# Altium schematic symbol library jlcpcb_inductors_basic.schlib: 13 symbols
Pins are listed as number, name and electrical type; pins without a type are passive.

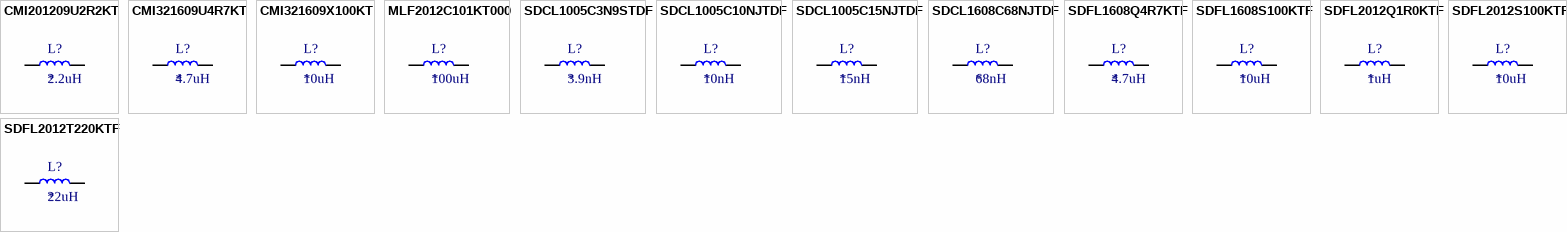
[diagram p0: symbols CMI201209U2R2KT to SDFL2012T220KTF]

## CMI201209U2R2KT
designator L?  Capacitance: 2.2uH
Inductor, 2.2uH, ±10%, 600mΩ, 50mA, SMD 0805; Manufacturer: FH(Guangdong Fenghua Advanced Tech); Manufacturer Part Number: CMI201209U2R2KT; Self-Resonant Frequency: 50MHz; Q Factor: 35@10MHz; Package Size: 0805; JLCPCB Basic Part: Yes; JLCPCB Part Number: C1043; Supplier 1: LCSC; Category: Capacitors - MLCC; Supplier Part Number 1: C1043; Tolerance: ±10%; Rated Current: 50mA; DC Resistance: 600mΩ; RoHS: Yes; ComponentLink1Description: Datasheet; ComponentLink1URL: https://datasheet.lcsc.com/lcsc/1811061719_FH--Guangdong-Fenghua-Advanced-Tech-CMI201209U2R2KT_C1043.pdf; ComponentLink2Description: JLCPCB Part URL; ComponentLink2URL: https://jlcpcb.com/partdetail/C1043; ComponentLink3Description: LCSC Part URL; ComponentLink3URL: https://lcsc.com/product-detail/Inductors-SMD_FH-Guangdong-Fenghua-Advanced-Tech-FH-Guangdong-Fenghua-Advanced-Tech-CMI201209U2R2KT_C1043.html
footprint IND-0805 (0805 (2012M) Capacitor)
pins: 1, 2

## CMI321609U4R7KT
designator L?  Capacitance: 4.7uH
Inductor, 4.7uH, ±10%, 650mΩ, 25mA, SMD 1206; Manufacturer: FH(Guangdong Fenghua Advanced Tech); Manufacturer Part Number: CMI321609U4R7KT; Self-Resonant Frequency: 35MHz; Q Factor: 35@10MHz; Package Size: 1206; JLCPCB Basic Part: Yes; JLCPCB Part Number: C1049; Supplier 1: LCSC; Category: Capacitors - MLCC; Supplier Part Number 1: C1049; Tolerance: ±10%; Rated Current: 25mA; DC Resistance: 650mΩ; RoHS: Yes; ComponentLink1Description: Datasheet; ComponentLink1URL: https://datasheet.lcsc.com/lcsc/1810311322_FH--Guangdong-Fenghua-Advanced-Tech-CMI321609U4R7KT_C1049.pdf; ComponentLink2Description: JLCPCB Part URL; ComponentLink2URL: https://jlcpcb.com/partdetail/C1049; ComponentLink3Description: LCSC Part URL; ComponentLink3URL: https://lcsc.com/product-detail/Inductors-SMD_FH-Guangdong-Fenghua-Advanced-Tech-FH-Guangdong-Fenghua-Advanced-Tech-CMI321609U4R7KT_C1049.html
footprint IND-1206 (1206 (3216M) Capacitor)
pins: 1, 2

## CMI321609X100KT
designator L?  Capacitance: 10uH
Inductor, 10uH, ±10%, 800mΩ, 25mA, SMD 1206; Manufacturer: FH(Guangdong Fenghua Advanced Tech); Manufacturer Part Number: CMI321609X100KT; Self-Resonant Frequency: 24MHz; Q Factor: 35@2MHz; Package Size: 1206; JLCPCB Basic Part: Yes; JLCPCB Part Number: C1051; Supplier 1: LCSC; Category: Capacitors - MLCC; Supplier Part Number 1: C1051; Tolerance: ±10%; Rated Current: 25mA; DC Resistance: 800mΩ; RoHS: Yes; ComponentLink1Description: Datasheet; ComponentLink1URL: https://datasheet.lcsc.com/lcsc/1810311314_FH--Guangdong-Fenghua-Advanced-Tech-CMI321609X100KT_C1051.pdf; ComponentLink2Description: JLCPCB Part URL; ComponentLink2URL: https://jlcpcb.com/partdetail/C1051; ComponentLink3Description: LCSC Part URL; ComponentLink3URL: https://lcsc.com/product-detail/Inductors-SMD_FH-Guangdong-Fenghua-Advanced-Tech-FH-Guangdong-Fenghua-Advanced-Tech-CMI321609X100KT_C1051.html
footprint IND-1206 (1206 (3216M) Capacitor)
pins: 1, 2

## MLF2012C101KT000
designator L?  Capacitance: 100uH
Inductor, 100uH, ±10%, 2.5Ω, 2mA, SMD 0805; Manufacturer: TDK; Manufacturer Part Number: MLF2012C101KT000; Self-Resonant Frequency: 7MHz; Q Factor: 25@1MHz; Package Size: 0805; JLCPCB Basic Part: Yes; JLCPCB Part Number: C68035; Supplier 1: LCSC; Category: Capacitors - MLCC; Supplier Part Number 1: C68035; Tolerance: ±10%; Rated Current: 2mA; DC Resistance: 2.5Ω; RoHS: Yes; ComponentLink1Description: Datasheet; ComponentLink1URL: https://datasheet.lcsc.com/lcsc/1810162253_TDK-MLF2012C101KT000_C68035.pdf; ComponentLink2Description: JLCPCB Part URL; ComponentLink2URL: https://jlcpcb.com/partdetail/C68035; ComponentLink3Description: LCSC Part URL; ComponentLink3URL: https://lcsc.com/product-detail/Inductors-SMD_TDK-TDK-MLF2012C101KT000_C68035.html
footprint IND-0805 (0805 (2012M) Capacitor)
pins: 1, 2

## SDCL1005C3N9STDF
designator L?  Capacitance: 3.9nH
Inductor, 3.9nH, 200mΩ, 300mA, SMD 0402; Manufacturer: Sunlord; Manufacturer Part Number: SDCL1005C3N9STDF; Self-Resonant Frequency: 4GHz; Q Factor: 8@100MHz; Package Size: 0402; JLCPCB Basic Part: Yes; JLCPCB Part Number: C14033; Supplier 1: LCSC; Category: Capacitors - MLCC; Supplier Part Number 1: C14033; Rated Current: 300mA; DC Resistance: 200mΩ; RoHS: Yes; ComponentLink1Description: Datasheet; ComponentLink1URL: https://datasheet.lcsc.com/lcsc/2110081230_Sunlord-SDCL1005C3N9STDF_C14033.pdf; ComponentLink2Description: JLCPCB Part URL; ComponentLink2URL: https://jlcpcb.com/partdetail/C14033; ComponentLink3Description: LCSC Part URL; ComponentLink3URL: https://lcsc.com/product-detail/Inductors-SMD_Sunlord-Sunlord-SDCL1005C3N9STDF_C14033.html
footprint IND-0402 (0402 (1005M) Capacitor)
pins: 1, 2

## SDCL1005C10NJTDF
designator L?  Capacitance: 10nH
Inductor, 10nH, ±5%, 400mΩ, 300mA, SMD 0402; Manufacturer: Sunlord; Manufacturer Part Number: SDCL1005C10NJTDF; Self-Resonant Frequency: 100MHz; Q Factor: 8@100MHz; Package Size: 0402; JLCPCB Basic Part: Yes; JLCPCB Part Number: C27147; Supplier 1: LCSC; Category: Capacitors - MLCC; Supplier Part Number 1: C27147; Tolerance: ±5%; Rated Current: 300mA; DC Resistance: 400mΩ; RoHS: Yes; ComponentLink1Description: Datasheet; ComponentLink1URL: https://datasheet.lcsc.com/lcsc/2110081230_Sunlord-SDCL1005C10NJTDF_C27147.pdf; ComponentLink2Description: JLCPCB Part URL; ComponentLink2URL: https://jlcpcb.com/partdetail/C27147; ComponentLink3Description: LCSC Part URL; ComponentLink3URL: https://lcsc.com/product-detail/Inductors-SMD_Sunlord-Sunlord-SDCL1005C10NJTDF_C27147.html
footprint IND-0402 (0402 (1005M) Capacitor)
pins: 1, 2

## SDCL1005C15NJTDF
designator L?  Capacitance: 15nH
Inductor, 15nH, ±5%, 500mΩ, 300mA, SMD 0402; Manufacturer: Sunlord; Manufacturer Part Number: SDCL1005C15NJTDF; Self-Resonant Frequency: 100MHz; Q Factor: 8@100MHz; Package Size: 0402; JLCPCB Basic Part: Yes; JLCPCB Part Number: C27143; Supplier 1: LCSC; Category: Capacitors - MLCC; Supplier Part Number 1: C27143; Tolerance: ±5%; Rated Current: 300mA; DC Resistance: 500mΩ; RoHS: Yes; ComponentLink1Description: Datasheet; ComponentLink1URL: https://datasheet.lcsc.com/lcsc/2110081230_Sunlord-SDCL1005C15NJTDF_C27143.pdf; ComponentLink2Description: JLCPCB Part URL; ComponentLink2URL: https://jlcpcb.com/partdetail/C27143; ComponentLink3Description: LCSC Part URL; ComponentLink3URL: https://lcsc.com/product-detail/Inductors-SMD_Sunlord-Sunlord-SDCL1005C15NJTDF_C27143.html
footprint IND-0402 (0402 (1005M) Capacitor)
pins: 1, 2

## SDCL1608C68NJTDF
designator L?  Capacitance: 68nH
Inductor, 68nH, ±5%, 850mΩ, 300mA, SMD 0603; Manufacturer: Sunlord; Manufacturer Part Number: SDCL1608C68NJTDF; Self-Resonant Frequency: 100MHz; Q Factor: 12@100MHz; Package Size: 0603; JLCPCB Basic Part: Yes; JLCPCB Part Number: C13415; Supplier 1: LCSC; Category: Capacitors - MLCC; Supplier Part Number 1: C13415; Tolerance: ±5%; Rated Current: 300mA; DC Resistance: 850mΩ; RoHS: Yes; ComponentLink1Description: Datasheet; ComponentLink1URL: https://datasheet.lcsc.com/lcsc/2110081230_Sunlord-SDCL1608C68NJTDF_C13415.pdf; ComponentLink2Description: JLCPCB Part URL; ComponentLink2URL: https://jlcpcb.com/partdetail/C13415; ComponentLink3Description: LCSC Part URL; ComponentLink3URL: https://lcsc.com/product-detail/Inductors-SMD_Sunlord-Sunlord-SDCL1608C68NJTDF_C13415.html
footprint IND-0603 (0603 (1608M) Capacitor)
pins: 1, 2

## SDFL1608Q4R7KTF
designator L?  Capacitance: 4.7uH
Inductor, 4.7uH, ±10%, 2.1Ω, 15mA, SMD 0603; Manufacturer: Sunlord; Manufacturer Part Number: SDFL1608Q4R7KTF; Self-Resonant Frequency: 10MHz; Q Factor: 35@10MHz; Package Size: 0603; JLCPCB Basic Part: Yes; JLCPCB Part Number: C1034; Supplier 1: LCSC; Category: Capacitors - MLCC; Supplier Part Number 1: C1034; Tolerance: ±10%; Rated Current: 15mA; DC Resistance: 2.1Ω; RoHS: Yes; ComponentLink1Description: Datasheet; ComponentLink1URL: https://datasheet.lcsc.com/lcsc/2110081230_Sunlord-SDFL1608Q4R7KTF_C1034.pdf; ComponentLink2Description: JLCPCB Part URL; ComponentLink2URL: https://jlcpcb.com/partdetail/C1034; ComponentLink3Description: LCSC Part URL; ComponentLink3URL: https://lcsc.com/product-detail/Inductors-SMD_Sunlord-Sunlord-SDFL1608Q4R7KTF_C1034.html
footprint IND-0603 (0603 (1608M) Capacitor)
pins: 1, 2

## SDFL1608S100KTF
designator L?  Capacitance: 10uH
Inductor, 10uH, ±10%, 1.85Ω, 3mA, SMD 0603; Manufacturer: Sunlord; Manufacturer Part Number: SDFL1608S100KTF; Self-Resonant Frequency: 2MHz; Q Factor: 30@2MHz; Package Size: 0603; JLCPCB Basic Part: Yes; JLCPCB Part Number: C1035; Supplier 1: LCSC; Category: Capacitors - MLCC; Supplier Part Number 1: C1035; Tolerance: ±10%; Rated Current: 3mA; DC Resistance: 1.85Ω; RoHS: Yes; ComponentLink1Description: Datasheet; ComponentLink1URL: https://datasheet.lcsc.com/lcsc/2110081230_Sunlord-SDFL1608S100KTF_C1035.pdf; ComponentLink2Description: JLCPCB Part URL; ComponentLink2URL: https://jlcpcb.com/partdetail/C1035; ComponentLink3Description: LCSC Part URL; ComponentLink3URL: https://lcsc.com/product-detail/Inductors-SMD_Sunlord-Sunlord-SDFL1608S100KTF_C1035.html
footprint IND-0603 (0603 (1608M) Capacitor)
pins: 1, 2

## SDFL2012Q1R0KTF
designator L?  Capacitance: 1uH
Inductor, 1uH, ±10%, 400mΩ, 50mA, SMD 0805; Manufacturer: Sunlord; Manufacturer Part Number: SDFL2012Q1R0KTF; Package Size: 0805; JLCPCB Basic Part: Yes; JLCPCB Part Number: C1042; Supplier 1: LCSC; Category: Capacitors - MLCC; Supplier Part Number 1: C1042; Tolerance: ±10%; Rated Current: 50mA; DC Resistance: 400mΩ; RoHS: Yes; ComponentLink1Description: Datasheet; ComponentLink1URL: https://datasheet.lcsc.com/lcsc/2110081230_Sunlord-SDFL2012Q1R0KTF_C1042.pdf; ComponentLink2Description: JLCPCB Part URL; ComponentLink2URL: https://jlcpcb.com/partdetail/C1042; ComponentLink3Description: LCSC Part URL; ComponentLink3URL: https://lcsc.com/product-detail/Inductors-SMD_Sunlord-Sunlord-SDFL2012Q1R0KTF_C1042.html
footprint IND-0805 (0805 (2012M) Capacitor)
pins: 1, 2

## SDFL2012S100KTF
designator L?  Capacitance: 10uH
Inductor, 10uH, ±10%, 1.15Ω, 15mA, SMD 0805; Manufacturer: Sunlord; Manufacturer Part Number: SDFL2012S100KTF; Package Size: 0805; JLCPCB Basic Part: Yes; JLCPCB Part Number: C1046; Supplier 1: LCSC; Category: Capacitors - MLCC; Supplier Part Number 1: C1046; Tolerance: ±10%; Rated Current: 15mA; DC Resistance: 1.15Ω; RoHS: Yes; ComponentLink1Description: Datasheet; ComponentLink1URL: https://datasheet.lcsc.com/lcsc/2110081230_Sunlord-SDFL2012S100KTF_C1046.pdf; ComponentLink2Description: JLCPCB Part URL; ComponentLink2URL: https://jlcpcb.com/partdetail/C1046; ComponentLink3Description: LCSC Part URL; ComponentLink3URL: https://lcsc.com/product-detail/Inductors-SMD_Sunlord-Sunlord-SDFL2012S100KTF_C1046.html
footprint IND-0805 (0805 (2012M) Capacitor)
pins: 1, 2

## SDFL2012T220KTF
designator L?  Capacitance: 22uH
Inductor, 22uH, ±10%, 1.1Ω, 5mA, SMD 0805; Manufacturer: Sunlord; Manufacturer Part Number: SDFL2012T220KTF; Package Size: 0805; JLCPCB Basic Part: Yes; JLCPCB Part Number: C32375; Supplier 1: LCSC; Category: Capacitors - MLCC; Supplier Part Number 1: C32375; Tolerance: ±10%; Rated Current: 5mA; DC Resistance: 1.1Ω; RoHS: Yes; ComponentLink1Description: Datasheet; ComponentLink1URL: https://datasheet.lcsc.com/lcsc/2110081230_Sunlord-SDFL2012T220KTF_C32375.pdf; ComponentLink2Description: JLCPCB Part URL; ComponentLink2URL: https://jlcpcb.com/partdetail/C32375; ComponentLink3Description: LCSC Part URL; ComponentLink3URL: https://lcsc.com/product-detail/Inductors-SMD_Sunlord-Sunlord-SDFL2012T220KTF_C32375.html
footprint IND-0805 (0805 (2012M) Capacitor)
pins: 1, 2